# EAGLE library part LTC1622 (library lbm)
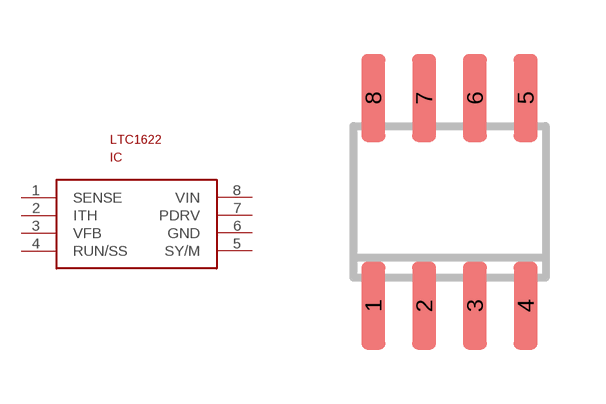
[diagram p11: symbol with the pads of SO8; footprint SO8]

Designator prefix IC

## LTC1622  [SO8]
1  SENSE
2  ITH
3  VFB
4  RUN/SS
5  SY/M
6  GND
7  PDRV
8  VIN

## Footprint SO8 (pad centres in mm)
smd 0.6 x 2.2: 1 -1.905,-2.6; 2 -0.635,-2.6; 3 0.635,-2.6; 4 1.905,-2.6; 5 1.905,2.6; 6 0.635,2.6; 7 -0.635,2.6; 8 -1.905,2.6